# EAGLE library part EMW3162_THT (library cTechnologies_modules)
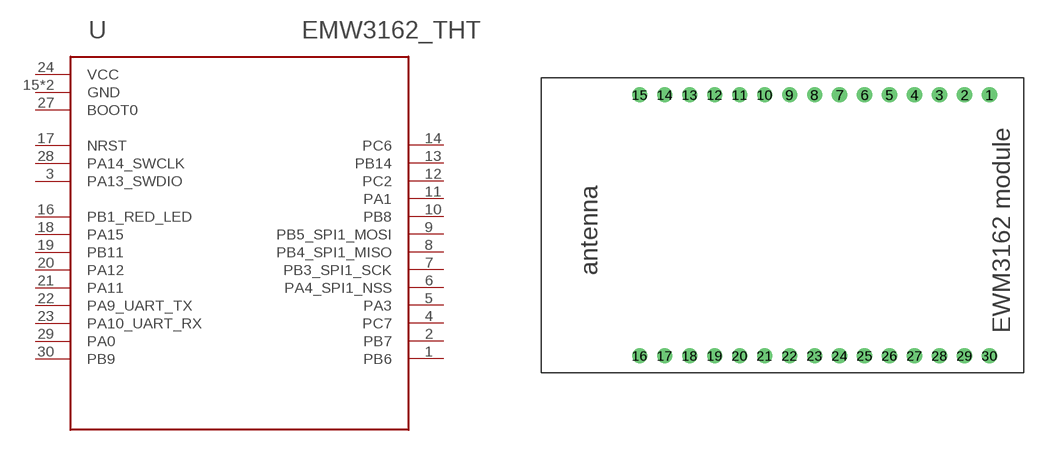
[diagram p1: symbol with the pads of EMW3162_THT; footprint EMW3162_THT]

Designator prefix -

## EMW3162_THT  [EMW3162_THT]
1  PB6
2  PB7
3  PA13_SWDIO
4  PC7
5  PA3
6  PA4_SPI1_NSS
7  PB3_SPI1_SCK
8  PB4_SPI1_MISO
9  PB5_SPI1_MOSI
10  PB8
11  PA1
12  PC2
13  PB14
14  PC6
15  GND
16  PB1_RED_LED
17  NRST
18  PA15
19  PB11
20  PA12
21  PA11
22  PA9_UART_TX
23  PA10_UART_RX
24  VCC
25  GND
27  BOOT0
28  PA14_SWCLK
29  PA0
30  PB9

## Footprint EMW3162_THT (pad centres in mm)
drill 0.7: 1 35.875,22.255; 2 33.875,22.255; 3 31.875,22.255; 4 29.875,22.255; 5 27.875,22.255; 6 25.875,22.255; 7 23.875,22.255; 8 21.875,22.255; 9 19.875,22.255; 10 17.875,22.255; 11 15.875,22.255; 12 13.875,22.255; 13 11.875,22.255; 14 9.875,22.255; 15 7.875,22.255; 16 7.875,1.375; 17 9.875,1.375; 18 11.875,1.375; 19 13.875,1.375; 20 15.875,1.375; 21 17.875,1.375; 22 19.875,1.375; 23 21.875,1.375; 24 23.875,1.375; 25 25.875,1.375; 26 27.875,1.375; 27 29.875,1.375; 28 31.875,1.375; 29 33.875,1.375; 30 35.875,1.375